# Altium footprint library PCB - SWITCH - OMRON B3S.PcbLib: 1 footprints
Each footprint in its own frame and in the unit in brackets; x right, y up, seen from the top. Pads: shape width x height; smd on the part's side, far side on the other; paste and mask are expansions set on the pad; w line width, h text height; cw(c..) or ccw(c..) is an arc to the next point about the centre after c.
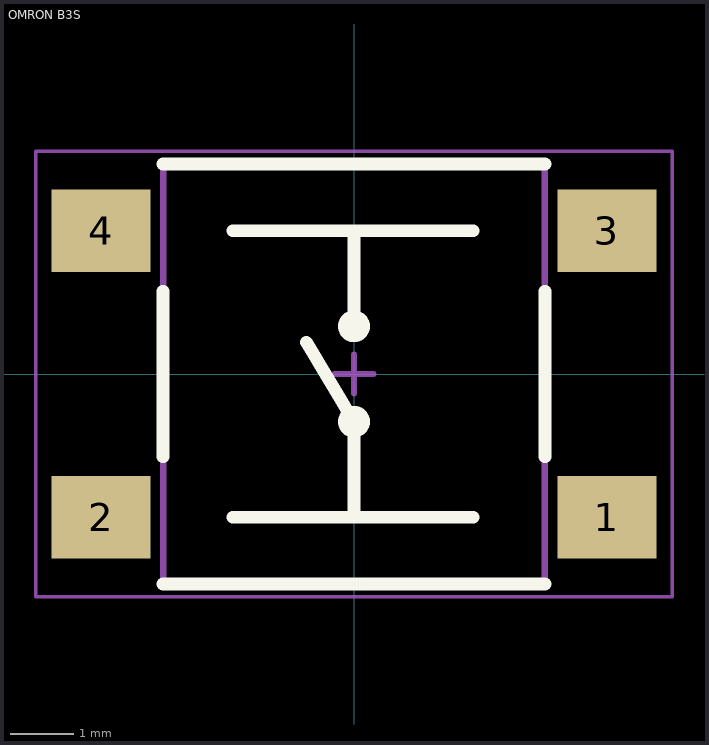
[diagram p0: the footprint, top view; thin cyan lines are the x and y axes]

## OMRON B3S [mm] "T-Switch, 4-leads, body 6x6.6mm, Omron B3S-1000P"
height 4.3
pads (4):
  rect 1.55x1.3 smd mask+0.1: 1(3.975,-2.25) 2(-3.975,-2.25) 3(3.975,2.25) 4(-3.975,2.25)
Top Overlay:
  circle w0.2: c0,0.75 r0.15
  circle w0.2: c0,-0.75 r0.15
  lines w0.2: -3,-3.3 3,-3.3 ; -3,-1.3 -3,1.3 ; -3,3.3 3,3.3 ; -1.9,-2.25 1.875,-2.25 ; -1.9,2.25 1.875,2.25 ; -0.75,0.5 0,-0.75 0,-2.225 ; 0,0.75 0,2.225 ; 3,-1.3 3,1.3
Mechanical 13:
  lines w0.1: -3,-3.3 3,-3.3 3,3.3 -3,3.3 -3,-3.3
Mechanical 15 (Mech15):
  lines w0.05: -5,-3.5 -5,3.5 5,3.5 5,-3.5 -5,-3.5
  lines w0.1: -0.3,0 0.3,0 ; 0,-0.3 0,0.3
3D body "Omron - B3S.step": height 4.3, standoff 0, extent -4.5,-3.3 4.5,3.3